# Altium footprint library FAFMACMU.PcbLib: 14 footprints
Each footprint in its own frame and in the unit in brackets; x right, y up, seen from the top. Pads: shape width x height; smd on the part's side, far side on the other; paste and mask are expansions set on the pad; w line width, h text height; cw(c..) or ccw(c..) is an arc to the next point about the centre after c.
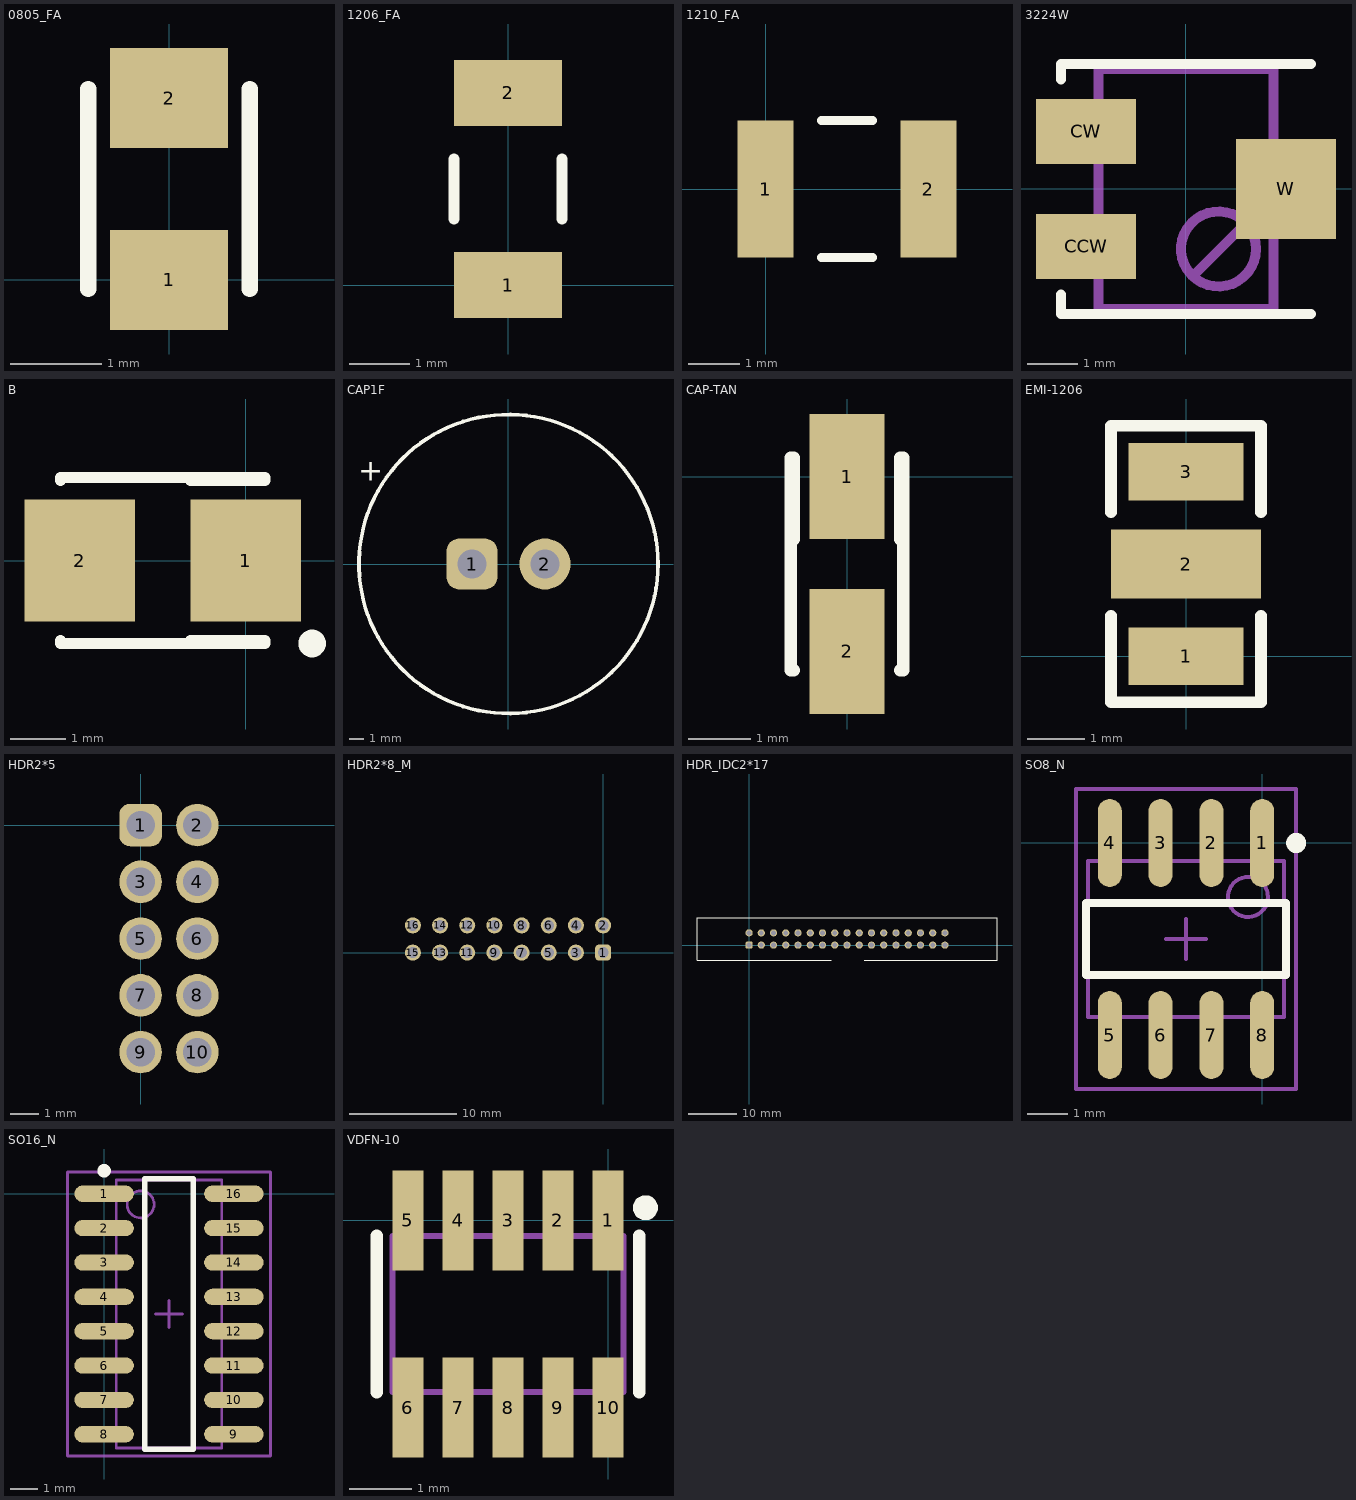
[diagram p0: the footprints below, top view; thin cyan lines are the x and y axes]

## 0805_FA [mm]
pads (2):
  rect 1.3x1.1 smd: 1(0,0) 2(0,2)
Top Overlay:
  lines w0.18: -0.89,-0.1 -0.89,2.1 ; 0.89,-0.1 0.89,2.1

## 1206_FA [mm]
pads (2):
  rect 1.8x1.1 smd: 1(0,0) 2(0,3.2)
Top Overlay:
  lines w0.18: -0.9,1.1 -0.9,2.1 ; 0.9,1.1 0.9,2.1

## 1210_FA [mm]
pads (2):
  rect 1.1x2.7 smd: 1(0,0) 2(3.2,0)
Top Overlay:
  lines w0.18: 1.1,-1.35 2.1,-1.35 ; 1.1,1.35 2.1,1.35

## 3224W [mm]
pads (3):
  rect 2x1.3 smd: CCW(-2,-1.15) CW(-2,1.15)
  rect 2x2 smd: W(2,0)
Top Overlay:
  lines w0.2: -2.5,-2.11 -2.5,-2.5 2.5,-2.5 ; -2.5,2.19 -2.5,2.5 2.5,2.5
Mechanical 13:
  circle w0.2: c0.65,-1.2 r0.75
  lines w0.2: 0.14,-1.74 1.19,-0.69 ; -1.75,-2.4 -1.75,2.4 1.75,2.4 1.75,-2.4 -1.75,-2.4

## B [mm]
pads (2):
  rect 2x2.2 smd: 1(0,0) 2(-3,0)
Top Overlay:
  circle w0.25: c1.2,-1.5 r0.125
  lines w0.2: -3.35,-1.45 -3.35,-1.5 0.35,-1.5 ; -3.35,1.45 -3.35,1.5 0.35,1.5 ; -1,-1.45 0.35,-1.45 ; -1,1.45 0.35,1.45

## CAP1F [mil]
pads (2):
  rrect50% 140x140 hole 80: 1(-100,0)
  round 140 hole 80: 2(100,0)
Top Overlay:
  circle w10: c0,0 r410
  text "+" at -412.6,228.95 h60

## CAP-TAN [mm]
pads (2):
  rect 1.2x2 smd: 1(0,0) 2(0,-2.8)
Top Overlay:
  lines w0.2: -0.9,0.3 -0.9,-3.1 -0.85,-3.1 ; -0.85,-1 -0.85,0.3 ; 0.85,-3.1 0.9,-3.1 0.9,0.3 ; 0.85,-1 0.85,0.3

## EMI-1206 [mm]
pads (3):
  rect 2x1 smd: 1(0,0) 3(0,3.2)
  rect 2.6x1.2 smd: 2(0,1.6)
Top Overlay:
  lines w0.2: -1.3,0.7 -1.3,-0.8 1.3,-0.8 1.3,0.7 ; -1.3,2.5 -1.3,4 1.3,4 1.3,2.5

## HDR2*5 [mm]
pads (10):
  rrect50% 1.5x1.5 hole 1: 1(0,0)
  round 1.5 hole 1: 2(2,0) 3(0,-2) 4(2,-2) 5(0,-4) 6(2,-4) 7(0,-6) 8(2,-6) 9(0,-8) 10(2,-8)
Bottom Overlay:
  lines w0.2: -1.27,-9.3 -1.27,1.27 3.27,1.27 3.27,-9.3 -1.27,-9.3
  text "10" at 5.63,-8.59 h1.27
  text "9" at -1.81,-8.8 h1.27
  text "1" at -2.01,-0.49 h1.27
  text "2" at 4.84,-0.46 h1.27

## HDR2*8_M [mm]
pads (16):
  rrect50% 1.5x1.5 hole 1: 1(0,0)
  round 1.5 hole 1: 2(0,2.54) 3(-2.54,0) 4(-2.54,2.54) 5(-5.08,0) 6(-5.08,2.54) 7(-7.62,0) 8(-7.62,2.54) 9(-10.16,0) 10(-10.16,2.54) 11(-12.7,0) 12(-12.7,2.54) 13(-15.24,0) 14(-15.24,2.54) 15(-17.78,0) 16(-17.78,2.54)
Bottom Overlay:
  lines w0.2: -11.557,-3.23 -22.91,-3.23 -22.91,5.77 5.13,5.77 5.13,-3.23 -6.223,-3.23
  text "2" at 2.54,2.032 h1
  text "1" at 2.54,-0.508 h1

## HDR_IDC2*17 [mm]
pads (34):
  rrect50% 1.5x1.5 hole 1: 1(0,0)
  round 1.5 hole 1: 2(0,2.54) 3(2.54,0) 4(2.54,2.54) 5(5.08,0) 6(5.08,2.54) 7(7.62,0) 8(7.62,2.54) 9(10.16,0) 10(10.16,2.54) 11(12.7,0) 12(12.7,2.54) 13(15.24,0) 14(15.24,2.54) 15(17.78,0) 16(17.78,2.54) 17(20.32,0) 18(20.32,2.54) 19(22.86,0) 20(22.86,2.54) 21(25.4,0) 22(25.4,2.54) 23(27.94,0) 24(27.94,2.54) 25(30.48,0) 26(30.48,2.54) 27(33.02,0) 28(33.02,2.54) 29(35.56,0) 30(35.56,2.54) 31(38.1,0) 32(38.1,2.54) 33(40.64,0) 34(40.64,2.54)
Top Overlay:
  lines w0.254: 17.018,-3.175 -10.81,-3.175 -10.81,5.715 51.45,5.715 51.45,-3.175 23.876,-3.175

## SO8_N [mm]
pads (8):
  oval 0.6x2.2 smd: 1(0,0) 2(-1.27,0) 3(-2.54,0) 4(-3.81,0) 5(-3.81,-4.8) 6(-2.54,-4.8) 7(-1.27,-4.8) 8(0,-4.8)
Top Overlay:
  circle w0.25: c0.85,0 r0.125
  lines w0.2: -4.405,-3.3 0.595,-3.3 0.595,-1.5 -4.405,-1.5 -4.405,-3.3
Mechanical 13:
  circle w0.1: c-0.355,-1.35 r0.5
  lines w0.1: -4.355,-4.35 0.545,-4.35 0.545,-0.45 -4.355,-0.45 -4.355,-4.35
Mechanical 15:
  lines w0.1: -2.405,-2.4 -1.405,-2.4 ; -1.905,-2.9 -1.905,-1.9 ; -4.655,-6.15 0.845,-6.15 0.845,1.35 -4.655,1.35 -4.655,-6.15
3D body: height 1.75, standoff 0, extent -4.355,-4.35 0.545,-0.45

## SO16_N [mm]
pads (16):
  oval 2.2x0.6 smd: 1(0,0) 2(0,-1.27) 3(0,-2.54) 4(0,-3.81) 5(0,-5.08) 6(0,-6.35) 7(0,-7.62) 8(0,-8.89) 9(4.8,-8.89) 10(4.8,-7.62) 11(4.8,-6.35) 12(4.8,-5.08) 13(4.8,-3.81) 14(4.8,-2.54) 15(4.8,-1.27) 16(4.8,0)
Top Overlay:
  circle w0.25: c0,0.85 r0.125
  lines w0.2: 1.5,-9.445 3.3,-9.445 3.3,0.555 1.5,0.555 1.5,-9.445
Mechanical 13:
  circle w0.1: c1.35,-0.395 r0.5
  lines w0.1: 0.45,-9.395 4.35,-9.395 4.35,0.505 0.45,0.505 0.45,-9.395
Mechanical 15:
  lines w0.1: 1.9,-4.445 2.9,-4.445 ; 2.4,-4.945 2.4,-3.945 ; -1.35,-9.695 6.15,-9.695 6.15,0.805 -1.35,0.805 -1.35,-9.695
3D body: height 1.75, standoff 0, extent 0.45,-9.395 4.35,0.505

## VDFN-10 [mm]
pads (10):
  rect 0.5x1.6 smd: 1(0,0) 2(-0.8,0) 3(-1.6,0) 4(-2.4,0) 5(-3.2,0) 6(-3.2,-3) 7(-2.4,-3) 8(-1.6,-3) 9(-0.8,-3) 10(0,-3)
Top Overlay:
  circle w0.2: c0.6,0.2 r0.1
  lines w0.2: -3.7,-2.75 -3.7,-0.25 ; 0.5,-2.75 0.5,-0.25
Mechanical 1:
  lines w0.1: -3.45,-2.75 0.25,-2.75 0.25,-0.25 -3.45,-0.25 -3.45,-2.75